# EAGLE library part LT1991 (library biomimetic)
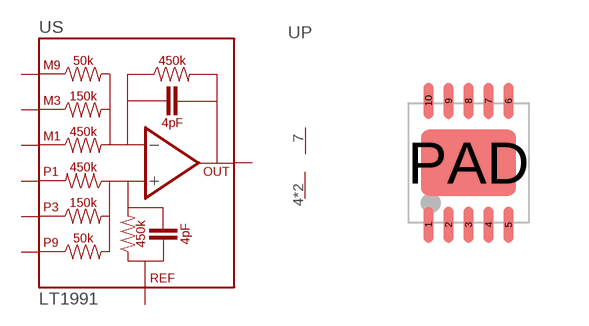
[diagram p11: symbol with the pads of DFN-10; footprint DFN-10]

Designator prefix -; gates S=LT1991 P=V+-

## LT1991  [DFN-10]
1  S:P1
2  S:P3
3  S:P9
4  P:V-  pwr
5  S:REF
6  S:OUT
7  P:V+  pwr
8  S:M9
9  S:M3
10  S:M1
PAD  P:V-  pwr

## Footprint DFN-10 (pad centres in mm)
smd 0.25 x 0.9: 1 -1,-1.55; 2 -0.5,-1.55; 3 0,-1.55; 4 0.5,-1.55; 5 1,-1.55; 6 1,1.55; 7 0.5,1.55; 8 0,1.55; 9 -0.5,1.55; 10 -1,1.55
smd 2.38 x 1.65: PAD 0,0